# EAGLE library part TRANSFORMAER_FLYBACK (library my_rcl)
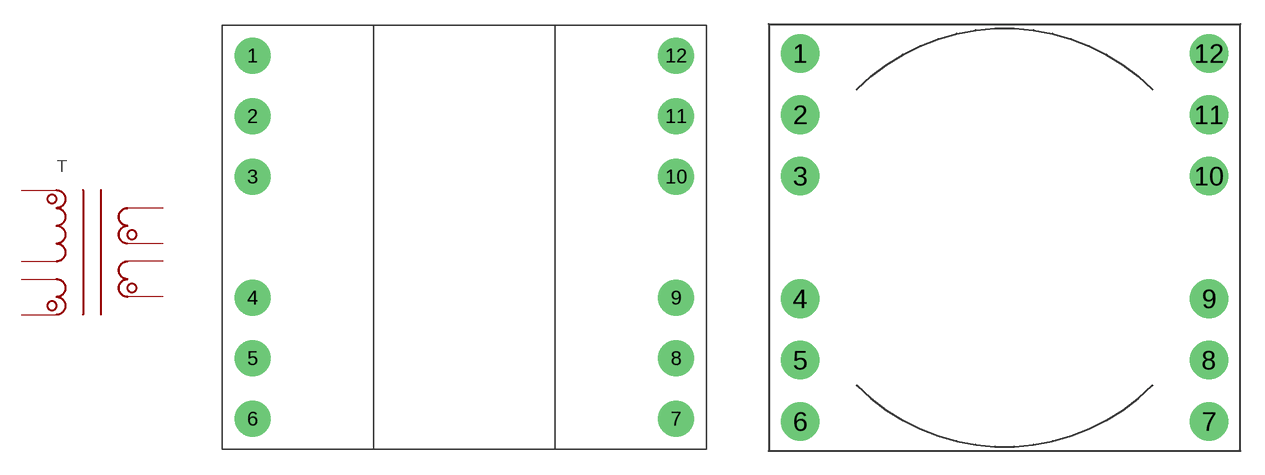
[diagram p1: symbol with the pads of BPQ35/35-1112CPFR; footprints BPQ35/35-1112CPFR, BPQ26/20-1112CPFR]

Designator prefix T

## TRANSFORMAER_FLYBACK-PQ3535  [BPQ35/35-1112CPFR]
1  L1_P  pas
3  L1_N  pas
4  L2_P  pas
5  L2_N  pas
8  L3_N  pas
9  L3_P  pas
10  L4_N  pas
11  L4_P  pas

## TRANSFORMAER_FLYBACK-PQ2620  [BPQ26/20-1112CPFR]
1  L1_P  pas
3  L1_N  pas
5  L2_P  pas
6  L2_N  pas
7  L3_N  pas
8  L3_N  pas
9  L3_P  pas
10  L4_N  pas
11  L4_P  pas
12  L4_P  pas

## TRANSFORMAER_FLYBACK-EER25.5  [BEER25.5-118CPFR]
1  L1_P  pas
2  L1_N  pas
3  L2_P  pas
4  L2_N  pas
5  L4_N  pas
6  L4_P  pas
7  L3_N  pas
8  L3_P  pas

## TRANSFORMAER_FLYBACK-PQ2620-ACF  [BPQ26/20-1112CPFR]
1  L1_N  pas
3  L1_P  pas
5  L2_P  pas
6  L2_N  pas
7  L3_N  pas
8  L3_N  pas
9  L3_P  pas
10  L4_N  pas
11  L4_P  pas
12  L4_P  pas

## TRANSFORMAER_FLYBACK-PQ2020  [BPQ20/20]
Pads as for BPQ26/20-1112CPFR

## Footprint BPQ35/35-1112CPFR (pad centres in mm)
drill 1.5 pad 3: 1 -17.78,15.24; 2 -17.78,10.16; 3 -17.78,5.08; 4 -17.78,-5.08; 5 -17.78,-10.16; 6 -17.78,-15.24; 7 17.78,-15.24; 8 17.78,-10.16; 9 17.78,-5.08; 10 17.78,5.08; 11 17.78,10.16; 12 17.78,15.24

## Footprint BPQ26/20-1112CPFR (pad centres in mm)
drill 1.6 pad 2.4: 1 -12.7,11.43; 2 -12.7,7.62; 3 -12.7,3.81; 4 -12.7,-3.81; 5 -12.7,-7.62; 6 -12.7,-11.43; 7 12.7,-11.43; 8 12.7,-7.62; 9 12.7,-3.81; 10 12.7,3.81; 11 12.7,7.62; 12 12.7,11.43

## Footprint BEER25.5-118CPFR (pad centres in mm)
drill 1.2 pad 2: 1 -7.5,-6.25; 2 -2.5,-6.25; 3 2.5,-6.25; 4 7.5,-6.25; 5 7.5,6.25; 6 2.5,6.25; 7 -2.5,6.25; 8 -7.5,6.25

## Footprint BPQ20/20 (pad centres in mm)
drill 1.4: 1 -10.15,10.15; 2 -10.15,6.35; 3 -10.15,2.55; 4 -10.15,-2.55; 5 -10.15,-6.35; 6 -10.15,-10.15; 7 10.15,-10.15; 8 10.15,-6.35; 9 10.15,-2.55; 10 10.15,2.55; 11 10.15,6.35; 12 10.15,10.15